# Altium schematic symbol library ICs-KeyControllers.SchLib: 1 symbol
Pins are listed as number, name and electrical type; pins without a type are passive.

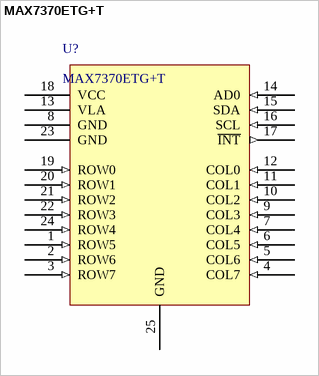
[diagram p0: symbol MAX7370ETG+T]

## MAX7370ETG+T
designator U?
Display Drivers & Controllers 8 x 8 Key-Switch Controller & LED Driver/GPIOs w I2C Interface & IEC Lvl 4 ESD Protection; Manufacturer: Maxim Integrated; PartNumber: MAX7370ETG+T; PackageReference: TQFN-CU-24; Mounting Technology: Surface Mount
footprint QFN-24 (3.5X3.5MM) (QFN, 24-Leads, Body 3.50x3.50mm, Pitch 0.40mm, Thermal Pad 2.30x2.30mm, IPC Medium Density)
pins: 1 ROW5 (in), 2 ROW6 (in), 3 ROW7 (in), 4 COL7 (in), 5 COL6 (in), 6 COL5 (in), 7 COL4 (in), 8 GND (power), 9 COL3 (in), 10 COL2 (in), 11 COL1 (in), 12 COL0 (in), 13 VLA (power), 14 AD0 (in), 15 SDA (in), 16 SCL (in), 17 ~{INT} (out), 18 VCC (power), 19 ROW0 (in), 20 ROW1 (in), 21 ROW2 (in), 22 ROW3 (in), 23 GND (power), 24 ROW4 (in), 25 GND (power)